# EAGLE library part TPS2492 (library texas)
HOT-SWAP CONTROLLER
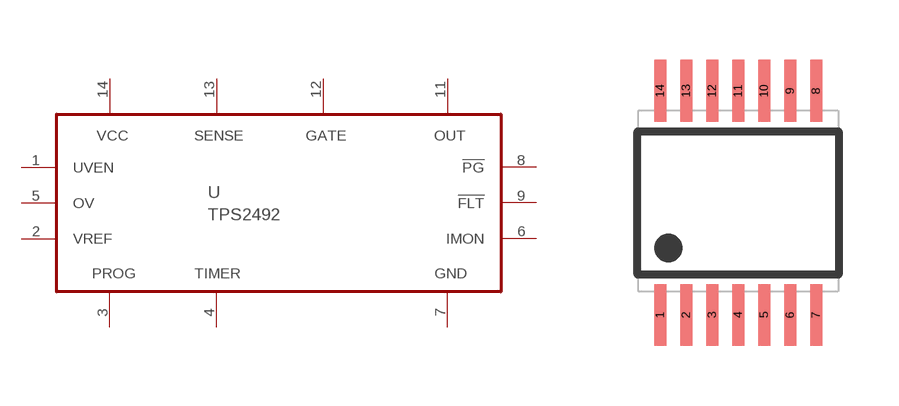
[diagram p82: symbol with the pads of TSSOP14; footprint TSSOP14]

Designator prefix U

## TPS2492  [TSSOP14]
1  UVEN
2  VREF  out
3  PROG  in
4  TIMER
5  OV
6  IMON  out
7  GND  pwr
8  !PG!  out
9  !FLT!  out
11  OUT  in
12  GATE  out
13  SENSE  in
14  VCC  in

## Footprint TSSOP14 (pad centres in mm)
Thin Shrink Small Outline Plastic 14
smd 0.3 x 1.55: 1 -1.95,-2.8; 2 -1.3,-2.8; 3 -0.65,-2.8; 4 0,-2.8; 5 0.65,-2.8; 6 1.3,-2.8; 7 1.95,-2.8; 8 1.95,2.8; 9 1.3,2.8; 10 0.65,2.8; 11 0,2.8; 12 -0.65,2.8; 13 -1.3,2.8; 14 -1.95,2.8